# Altium schematic symbol library SI2309DS.SchLib: 1 symbol
Pins are listed as number, name and electrical type; pins without a type are passive.

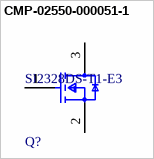
[diagram p0: symbol CMP-02550-000051-1]

## CMP-02550-000051-1
designator Q?, comment SI2328DS-T1-E3
MOSFET N-CH 100V 1.15A SOT23-3; Manufacturer: Vishay; Pulse Drain Current: 6A; Reverse Recovery Time: 50ns; Max Forward Diode Voltage: 1.2V; Number Of Channels: 1; Transconductance: 4S; Standoff Height: 0.01mm; Max Junction Temp: +150°C; Threshold Vgs Min: 2V; Rthja Max: 130°C/W; Drain To Source Resistance: 0.195Ω; Turn On Delay Time: 7ns; Gate To Source Voltage: 20V; Depletion Mode: False; Threshold Vgs Max: 4V; Turn Off Delay Time: 9ns; Typ Forward Diode Voltage: 0.8V; Gate Charge At Vgs: 3.3nC @ 10V; Power Dissipation: 0.73W; Device Class L1: Discrete Semiconductors; Digikey Description: MOSFET N-CH 100V 1.15A SOT23-3; RoHS: TRUE; Manufacturer Part Number: SI2328DS-T1-E3; Temperature Range Low: -55°C; ComponentLink2URL: http://www.vishay.com/docs/71796/si2328ds.pdf; Octopart: https://octopart.com/si2328ds-t1-e3-vishay-40951139; Drain To Source Voltage: 100V; Lead Free: Yes; Continuous Drain Current: 1.15A; Height: 1.12mm; ComponentLink2Description: Datasheet; Package: S-03946; Automotive: No; Mouser Description: MOSFET 100V 1.5A; Device Class L3: MOSFETs; Temperature: -55°C to +150°C; Temperature Range High: +150°C; Device Class L2: Transistors; Ipc Land Pattern Name: SOT95P237X100-3; Drain To Source Breakdown Voltage: 100V; Category: Trans; Number Of N Channels: 1
footprint FP-S-03946-IPC_C
footprint FP-S-03946-IPC_A
footprint FP-S-03946-MFG
footprint FP-S-03946-IPC_B
pins: 1 G, 2 S, 3 D